# Altium schematic symbol library MMBT2222A-7-F.SchLib: 1 symbol
Pins are listed as number, name and electrical type; pins without a type are passive.

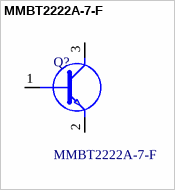
[diagram p0: symbol MMBT2222A-7-F]

## MMBT2222A-7-F
designator Q?
Bipolar Transistors - BJT 40V 300mW; Manufacturer_Name: Diodes Inc.; Geometry.Height: 1.1mm; Mouser Part Number: 621-MMBT2222A-F; Mouser Price/Stock: https://www.mouser.co.uk/ProductDetail/Diodes-Incorporated/MMBT2222A-7-F?qs=G7Qimwij5NgJLDBj1%2FHVqA%3D%3D; Manufacturer_Part_Number: MMBT2222A-7-F; Datasheet Link: https://componentsearchengine.com/Datasheets/2/MMBT2222A-7-F.pdf; Supplier 1: Digi-Key; Supplier Part Number 1: MMBT2222A-FDICT-ND
footprint SOT96P240X110-3N
pins: 1 B, 2 E, 3 C